# EAGLE library part AD602 (library ic)
AD602: Dual variable gain amplifier (Analog Devices) -10...+30dB gain, 1.4nV/rt(Hz) noise, 35MHz bandwidth
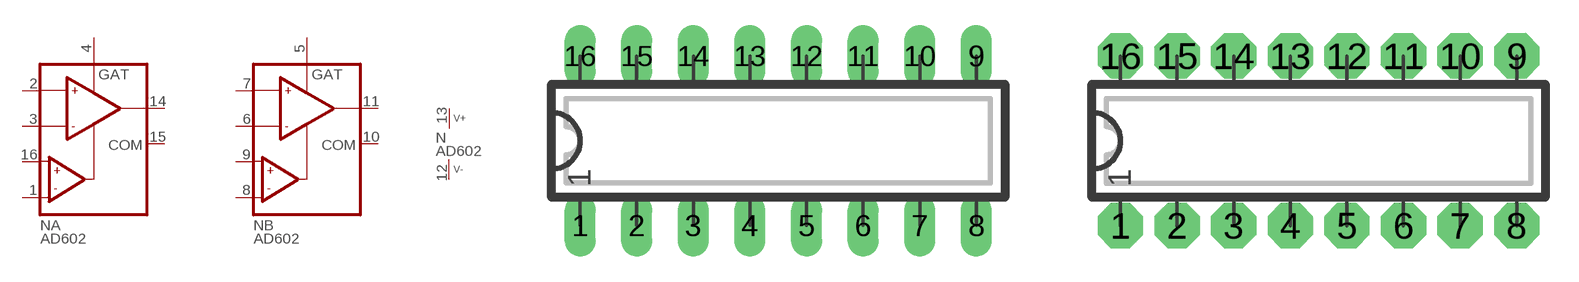
[diagram p126: symbol with the pads of DIP16L; footprints DIP16L, DIP16N]

Designator prefix N; gates A=AD602 B=AD602 P=V+-

## AD602  [DIP16L]
1  A:CLO  in
2  A:AHI  in
3  A:ALO  in
4  A:GAT  in
5  B:GAT  in
6  B:ALO  in
7  B:AHI  in
8  B:CLO  in
9  B:CHI  in
10  B:ACM  in
11  B:AOP  out
12  P:V-  pwr
13  P:V+  pwr
14  A:AOP  out
15  A:ACM  in
16  A:CHI  in

## AD602L  [DIP16L]
Pads as for DIP16L

## AD602N  [DIP16N]
Pads as for DIP16L

## AD602E  [DIP16R]
Pads as for DIP16L

## Footprint DIP16L (pad centres in mm)
DIP-16, long pads Standard IC package, 16 pins
drill 0.813 pad 1.397 long: 1 -8.89,-3.81; 2 -6.35,-3.81; 3 -3.81,-3.81; 4 -1.27,-3.81; 5 1.27,-3.81; 6 3.81,-3.81; 7 6.35,-3.81; 8 8.89,-3.81; 9 8.89,3.81; 10 6.35,3.81; 11 3.81,3.81; 12 1.27,3.81; 13 -1.27,3.81; 14 -3.81,3.81; 15 -6.35,3.81; 16 -8.89,3.81

## Footprint DIP16N (pad centres in mm)
DIP-16 Standard IC package, 16 pins
drill 0.813 pad 2.032 octagon: 1 -8.89,-3.81; 2 -6.35,-3.81; 3 -3.81,-3.81; 4 -1.27,-3.81; 5 1.27,-3.81; 6 3.81,-3.81; 7 6.35,-3.81; 8 8.89,-3.81; 9 8.89,3.81; 10 6.35,3.81; 11 3.81,3.81; 12 1.27,3.81; 13 -1.27,3.81; 14 -3.81,3.81; 15 -6.35,3.81; 16 -8.89,3.81

## Footprint DIP16R (pad centres in mm)
DIP-16, reduced pads Standard IC package, 16 pins
drill 0.813 pad 1.397 square: 1 -8.89,-3.81; 2 -6.35,-3.81; 3 -3.81,-3.81; 4 -1.27,-3.81; 5 1.27,-3.81; 6 3.81,-3.81; 7 6.35,-3.81; 8 8.89,-3.81; 9 8.89,3.81; 10 6.35,3.81; 11 3.81,3.81; 12 1.27,3.81; 13 -1.27,3.81; 14 -3.81,3.81; 15 -6.35,3.81; 16 -8.89,3.81